# EAGLE library part FM28V100-TGTR (library SamacSys_Parts)
F-RAM 1M (128Kx8) 2.2-3.6V F-RAM Source: Datasheet <https://www.infineon.com/dgdl/Infineon-FM28V100_1_MBIT_(128K_X_8)_F-RAM_MEMORY-DataSheet-v08_00-EN.pdf?fileId=8ac78c8c7d0d8da4017d0ec8921d410d>
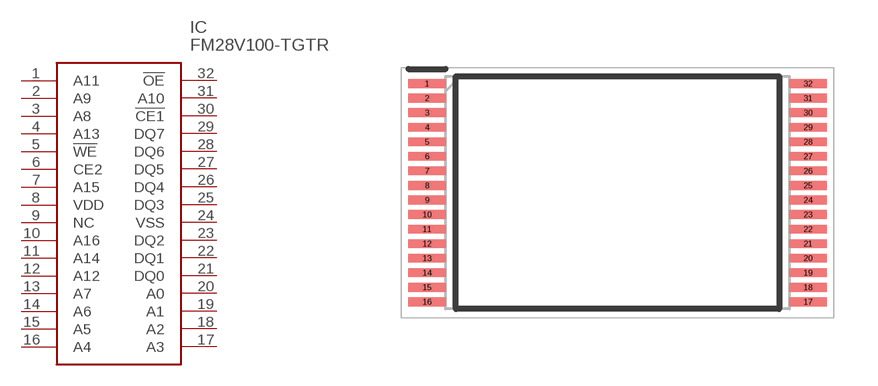
[diagram p29: symbol with the pads of SOP50P1340X120-32N; footprint SOP50P1340X120-32N]

Designator prefix IC

## FM28V100-TGTR (DESCRIPTION: F-RAM 1M (128Kx8) 2.2-3.6V F-RAM; HEIGHT: 1.2mm; MANUFACTURER_NAME: Infineon; MANUFACTURER_PART_NUMBER: FM28V100-TGTR; MOUSER_PART_NUMBER: 877-FM28V100-TGTR; MOUSER_PRICE-STOCK: https://www.mouser.co.uk/ProductDetail/Infineon-Technologies/FM28V100-TGTR?qs=pA5MXup5wxFvcvlZ6v2sqA%3D%3D)  [SOP50P1340X120-32N]
1  A11
2  A9
3  A8
4  A13
5  !WE
6  CE2
7  A15
8  VDD
9  NC  nc
10  A16
11  A14
12  A12
13  A7
14  A6
15  A5
16  A4
17  A3
18  A2
19  A1
20  A0
21  DQ0
22  DQ1
23  DQ2
24  VSS
25  DQ3
26  DQ4
27  DQ5
28  DQ6
29  DQ7
30  !CE1
31  A10
32  !OE

## Footprint SOP50P1340X120-32N (pad centres in mm)
32-pin Small TSOP (8 13.4 1.2 mm)
smd 1.275 x 0.3: 1 -6.538,3.75; 2 -6.538,3.25; 3 -6.538,2.75; 4 -6.538,2.25; 5 -6.538,1.75; 6 -6.538,1.25; 7 -6.538,0.75; 8 -6.538,0.25; 9 -6.538,-0.25; 10 -6.538,-0.75; 11 -6.538,-1.25; 12 -6.538,-1.75; 13 -6.538,-2.25; 14 -6.538,-2.75; 15 -6.538,-3.25; 16 -6.538,-3.75; 17 6.538,-3.75; 18 6.538,-3.25; 19 6.538,-2.75; 20 6.538,-2.25; 21 6.538,-1.75; 22 6.538,-1.25; 23 6.538,-0.75; 24 6.538,-0.25; 25 6.538,0.25; 26 6.538,0.75; 27 6.538,1.25; 28 6.538,1.75; 29 6.538,2.25; 30 6.538,2.75; 31 6.538,3.25; 32 6.538,3.75